# Altium schematic symbol library Machine_Side_v1.0.SchLib: 1 symbol
Pins are listed as number, name and electrical type; pins without a type are passive.

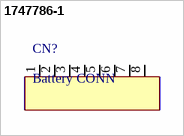
[diagram p0: symbol 1747786-1]

## 1747786-1
designator CN?, comment Battery CONN
footprint 1747786-1
pins: 1, 2, 3, 4, 5, 6, 7, 8